# Altium integrated library Analog Devices Data Converters Digital-to-Analog Converters.IntLib: 2231 symbols (part 7 of 181)
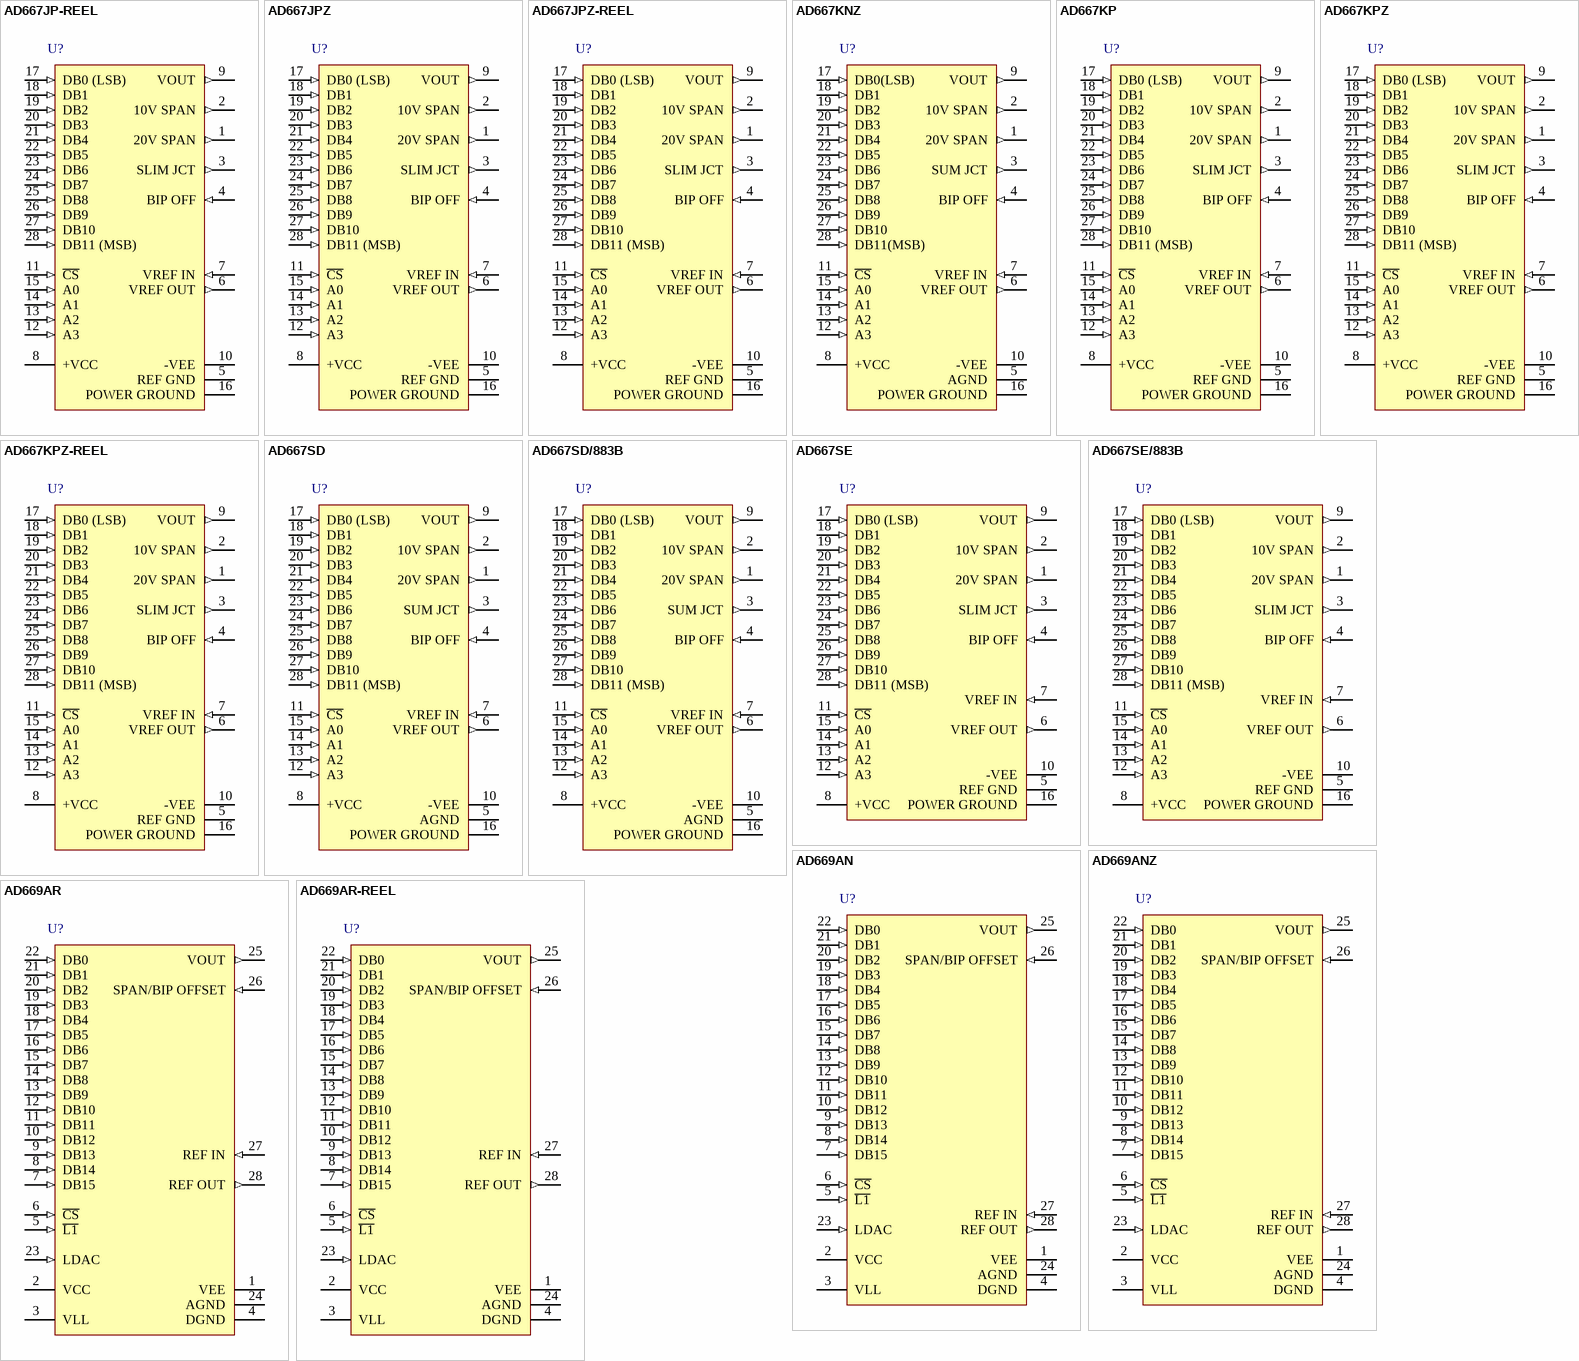
[diagram p120: symbols AD667JP-REEL to AD669AR-REEL]

## AD667KP
designator U?
Single 12-Bit Microprocessor-Compatible Digital-to-Analog Converter, 0 to +70 degC, P-28, Tube; Generic Part Number: AD667; Manufacturer: Analog Devices; PartNumber: AD667KP; # DAC Outputs: 1; Max V+: 16.5V; Op Pwr Diss: 555mW; Resolution (Bits): 12; Settling Time: 2µs; Single Supply: No; DatasheetVersion: Rev.A; PackageVersion: 042508-A; PackageReference: P-28; PackageDescription: 28-Lead Plastic Leaded Chip Carrier [PLCC]; Supplier 1: Digi-Key; Supplier Part Number 1: AD667KP-ND; Supplier 2: Mouser; Supplier Part Number 2: 584-AD667KP; Packing: Tube; RoHS: N; Mounting Technology: Surface Mount; Code_JEDEC: MO-047-AB; ComponentLink1Description: Manufacturer URL; ComponentLink1URL: http://www.analog.com/en/index.html; ComponentLink2Description: Datasheet; ComponentLink2URL: http://www.analog.com/static/imported-files/data_sheets/AD667.pdf; ComponentLink3Description: Package Specification; ComponentLink3URL: http://www.analog.com/static/imported-files/packages/PKG_PDF/PLCC(P)/P_28.pdf; ComponentLink4Description: Product URL; ComponentLink4URL: http://www.analog.com/en/digital-to-analog-converters/da-converters/ad667/products/product.html
footprint P-28_N (Leaded Chip Carrier, 28-Leads, Body 11.5x11.5mm, Pitch 1.27mm, IPC Medium Density)
footprint P-28_L (Leaded Chip Carrier, 28-Leads, Body 11.5x11.5mm, Pitch 1.27mm, IPC High Density)
footprint P-28_M (Leaded Chip Carrier, 28-Leads, Body 11.5x11.5mm, Pitch 1.27mm, IPC Low Density)
pins: 1 20V SPAN (out), 2 10V SPAN (out), 3 SLIM JCT (out), 4 BIP OFF (in), 5 REF GND (power), 6 VREF OUT (out), 7 VREF IN (in), 8 +VCC (power), 9 VOUT (out), 10 -VEE (power), 11 ~{CS} (in), 12 A3 (in), 13 A2 (in), 14 A1 (in), 15 A0 (in), 16 POWER GROUND (power), 17 DB0 (LSB) (in), 18 DB1 (in), 19 DB2 (in), 20 DB3 (in), 21 DB4 (in), 22 DB5 (in), 23 DB6 (in), 24 DB7 (in), 25 DB8 (in), 26 DB9 (in), 27 DB10 (in), 28 DB11 (MSB) (in)

## AD667KPZ
designator U?
Single 12-Bit Microprocessor-Compatible Digital-to-Analog Converter, 0 to +70 degC, P-28, Pb-Free, Tube; Generic Part Number: AD667; Manufacturer: Analog Devices; PartNumber: AD667KPZ; # DAC Outputs: 1; Max V+: 16.5V; Op Pwr Diss: 555mW; Resolution (Bits): 12; Settling Time: 2µs; Single Supply: No; DatasheetVersion: Rev.A; PackageVersion: 042508-A; PackageReference: P-28; PackageDescription: 28-Lead Plastic Leaded Chip Carrier [PLCC]; Supplier 1: Digi-Key; Supplier Part Number 1: AD667KPZ-ND; Supplier 2: Newark; Supplier Part Number 2: 52R8146; Supplier 3: Mouser; Supplier Part Number 3: 584-AD667KPZ; Packing: Tube; RoHS: Y; Mounting Technology: Surface Mount; Code_JEDEC: MO-047-AB; ComponentLink1Description: Manufacturer URL; ComponentLink1URL: http://www.analog.com/en/index.html; ComponentLink2Description: Datasheet; ComponentLink2URL: http://www.analog.com/static/imported-files/data_sheets/AD667.pdf; ComponentLink3Description: Package Specification; ComponentLink3URL: http://www.analog.com/static/imported-files/packages/PKG_PDF/PLCC(P)/P_28.pdf; ComponentLink4Description: Product URL; ComponentLink4URL: http://www.analog.com/en/digital-to-analog-converters/da-converters/ad667/products/product.html
footprint P-28_N (Leaded Chip Carrier, 28-Leads, Body 11.5x11.5mm, Pitch 1.27mm, IPC Medium Density)
footprint P-28_L (Leaded Chip Carrier, 28-Leads, Body 11.5x11.5mm, Pitch 1.27mm, IPC High Density)
footprint P-28_M (Leaded Chip Carrier, 28-Leads, Body 11.5x11.5mm, Pitch 1.27mm, IPC Low Density)
pins: 1 20V SPAN (out), 2 10V SPAN (out), 3 SLIM JCT (out), 4 BIP OFF (in), 5 REF GND (power), 6 VREF OUT (out), 7 VREF IN (in), 8 +VCC (power), 9 VOUT (out), 10 -VEE (power), 11 ~{CS} (in), 12 A3 (in), 13 A2 (in), 14 A1 (in), 15 A0 (in), 16 POWER GROUND (power), 17 DB0 (LSB) (in), 18 DB1 (in), 19 DB2 (in), 20 DB3 (in), 21 DB4 (in), 22 DB5 (in), 23 DB6 (in), 24 DB7 (in), 25 DB8 (in), 26 DB9 (in), 27 DB10 (in), 28 DB11 (MSB) (in)

## AD667KPZ-REEL
designator U?
Single 12-Bit Microprocessor-Compatible Digital-to-Analog Converter, 0 to +70 degC, P-28, Pb-Free, Reel; Generic Part Number: AD667; Manufacturer: Analog Devices; PartNumber: AD667KPZ-REEL; # DAC Outputs: 1; Max V+: 16.5V; Op Pwr Diss: 555mW; Resolution (Bits): 12; Settling Time: 2µs; Single Supply: No; DatasheetVersion: Rev.A; PackageVersion: 042508-A; PackageReference: P-28; PackageDescription: 28-Lead Plastic Leaded Chip Carrier [PLCC]; Supplier 1: Digi-Key; Supplier Part Number 1: AD667KPZ-REEL-ND; Supplier 2: Newark; Supplier Part Number 2: 52R8147; Supplier 3: Mouser; Supplier Part Number 3: 584-AD667KPZ-R; Packing: Reel; RoHS: Y; Mounting Technology: Surface Mount; Code_JEDEC: MO-047-AB; ComponentLink1Description: Manufacturer URL; ComponentLink1URL: http://www.analog.com/en/index.html; ComponentLink2Description: Datasheet; ComponentLink2URL: http://www.analog.com/static/imported-files/data_sheets/AD667.pdf; ComponentLink3Description: Package Specification; ComponentLink3URL: http://www.analog.com/static/imported-files/packages/PKG_PDF/PLCC(P)/P_28.pdf; ComponentLink4Description: Product URL; ComponentLink4URL: http://www.analog.com/en/digital-to-analog-converters/da-converters/ad667/products/product.html
footprint P-28_N (Leaded Chip Carrier, 28-Leads, Body 11.5x11.5mm, Pitch 1.27mm, IPC Medium Density)
footprint P-28_L (Leaded Chip Carrier, 28-Leads, Body 11.5x11.5mm, Pitch 1.27mm, IPC High Density)
footprint P-28_M (Leaded Chip Carrier, 28-Leads, Body 11.5x11.5mm, Pitch 1.27mm, IPC Low Density)
pins: 1 20V SPAN (out), 2 10V SPAN (out), 3 SLIM JCT (out), 4 BIP OFF (in), 5 REF GND (power), 6 VREF OUT (out), 7 VREF IN (in), 8 +VCC (power), 9 VOUT (out), 10 -VEE (power), 11 ~{CS} (in), 12 A3 (in), 13 A2 (in), 14 A1 (in), 15 A0 (in), 16 POWER GROUND (power), 17 DB0 (LSB) (in), 18 DB1 (in), 19 DB2 (in), 20 DB3 (in), 21 DB4 (in), 22 DB5 (in), 23 DB6 (in), 24 DB7 (in), 25 DB8 (in), 26 DB9 (in), 27 DB10 (in), 28 DB11 (MSB) (in)

## AD667SD
designator U?
Single 12-Bit Microprocessor-Compatible Digital-to-Analog Converter, -55 to +125 degC, D-28-2, Tube; Generic Part Number: AD667; Manufacturer: Analog Devices; PartNumber: AD667SD; # DAC Outputs: 1; Max V+: 16.5V; Op Pwr Diss: 555mW; Resolution (Bits): 12; Settling Time: 2µs; Single Supply: No; DatasheetVersion: Rev.A; PackageVersion: Oct-2004; PackageReference: D-28-2; PackageDescription: 28-Lead Side-Brazed Ceramic Dual In-Line Package [SBDIP]; Supplier 1: Digi-Key; Supplier Part Number 1: AD667SD-ND; Supplier 2: Newark; Supplier Part Number 2: 66F5809; Supplier 3: Mouser; Supplier Part Number 3: 584-AD667SD; Packing: Tube; RoHS: N; Mounting Technology: Through Hole; ComponentLink1Description: Manufacturer URL; ComponentLink1URL: http://www.analog.com/en/index.html; ComponentLink2Description: Datasheet; ComponentLink2URL: http://www.analog.com/static/imported-files/data_sheets/AD667.pdf; ComponentLink3Description: Package Specification; ComponentLink3URL: http://www.analog.com/static/imported-files/packages/28824602D_28_2.pdf; ComponentLink4Description: Product URL; ComponentLink4URL: http://www.analog.com/en/digital-to-analog-converters/da-converters/ad667/products/product.html
footprint D-28-2 (DIP, 28-Leads, Row Spacing 15.24mm, Pitch 2.54mm, Body 37.2x14.1mm)
pins: 1 20V SPAN (out), 2 10V SPAN (out), 3 SUM JCT (out), 4 BIP OFF (in), 5 AGND (power), 6 VREF OUT (out), 7 VREF IN (in), 8 +VCC (power), 9 VOUT (out), 10 -VEE (power), 11 ~{CS} (in), 12 A3 (in), 13 A2 (in), 14 A1 (in), 15 A0 (in), 16 POWER GROUND (power), 17 DB0 (LSB) (in), 18 DB1 (in), 19 DB2 (in), 20 DB3 (in), 21 DB4 (in), 22 DB5 (in), 23 DB6 (in), 24 DB7 (in), 25 DB8 (in), 26 DB9 (in), 27 DB10 (in), 28 DB11 (MSB) (in)

## AD667SD/883B
designator U?
Single 12-Bit Microprocessor-Compatible Digital-to-Analog Converter, -55 to +125 degC, D-28-2, Tube; Generic Part Number: AD667; Manufacturer: Analog Devices; PartNumber: AD667SD/883B; # DAC Outputs: 1; Max V+: 16.5V; Op Pwr Diss: 555mW; Resolution (Bits): 12; Settling Time: 2µs; Single Supply: No; DatasheetVersion: Rev.A; PackageVersion: Oct-2004; PackageReference: D-28-2; PackageDescription: 28-Lead Side-Brazed Ceramic Dual In-Line Package [SBDIP]; Supplier 1: Mouser; Supplier Part Number 1: 584-AD667SD883B; Packing: Tube; RoHS: N; Mounting Technology: Through Hole; ComponentLink1Description: Manufacturer URL; ComponentLink1URL: http://www.analog.com/en/index.html; ComponentLink2Description: Datasheet; ComponentLink2URL: http://www.analog.com/static/imported-files/data_sheets/AD667.pdf; ComponentLink3Description: Package Specification; ComponentLink3URL: http://www.analog.com/static/imported-files/packages/28824602D_28_2.pdf; ComponentLink4Description: Product URL; ComponentLink4URL: http://www.analog.com/en/digital-to-analog-converters/da-converters/ad667/products/product.html
footprint D-28-2 (DIP, 28-Leads, Row Spacing 15.24mm, Pitch 2.54mm, Body 37.2x14.1mm)
pins: 1 20V SPAN (out), 2 10V SPAN (out), 3 SUM JCT (out), 4 BIP OFF (in), 5 AGND (power), 6 VREF OUT (out), 7 VREF IN (in), 8 +VCC (power), 9 VOUT (out), 10 -VEE (power), 11 ~{CS} (in), 12 A3 (in), 13 A2 (in), 14 A1 (in), 15 A0 (in), 16 POWER GROUND (power), 17 DB0 (LSB) (in), 18 DB1 (in), 19 DB2 (in), 20 DB3 (in), 21 DB4 (in), 22 DB5 (in), 23 DB6 (in), 24 DB7 (in), 25 DB8 (in), 26 DB9 (in), 27 DB10 (in), 28 DB11 (MSB) (in)

## AD667SE
designator U?
Single 12-Bit Microprocessor-Compatible Digital-to-Analog Converter, -55 to +125 degC, E-28-1, Pb-Free, Tube; Generic Part Number: AD667; Manufacturer: Analog Devices; PartNumber: AD667SE; # DAC Outputs: 1; Max V+: 16.5V; Op Pwr Diss: 555mW; Resolution (Bits): 12; Settling Time: 2µs; Single Supply: No; DatasheetVersion: Rev.A; PackageVersion: 022106-A; PackageReference: E-28-1; PackageDescription: 28-Terminal Ceramic Leadless Chip Carrier [LCC]; Supplier 1: Digi-Key; Supplier Part Number 1: AD667SE-ND; Supplier 2: Newark; Supplier Part Number 2: 16F3497; Supplier 3: Mouser; Supplier Part Number 3: 584-AD667SE; Packing: Tube; RoHS: Y; Mounting Technology: Surface Mount; ComponentLink1Description: Manufacturer URL; ComponentLink1URL: http://www.analog.com/en/index.html; ComponentLink2Description: Datasheet; ComponentLink2URL: http://www.analog.com/static/imported-files/data_sheets/AD667.pdf; ComponentLink3Description: Package Specification; ComponentLink3URL: http://www.analog.com/static/imported-files/packages/PKG_PDF/LCC(E)/E_28_1.pdf; ComponentLink4Description: Product URL; ComponentLink4URL: http://www.analog.com/en/digital-to-analog-converters/da-converters/ad667/products/product.html
footprint E-28-1_N (Leadless Chip Carrier, 28-Leads, Body 11.4x11.4mm, Pitch 1.27mm, IPC Medium Density)
footprint E-28-1_L (Leadless Chip Carrier, 28-Leads, Body 11.4x11.4mm, Pitch 1.27mm, IPC High Density)
footprint E-28-1_M (Leadless Chip Carrier, 28-Leads, Body 11.4x11.4mm, Pitch 1.27mm, IPC Low Density)
pins: 1 20V SPAN (out), 2 10V SPAN (out), 3 SLIM JCT (out), 4 BIP OFF (in), 5 REF GND (power), 6 VREF OUT (out), 7 VREF IN (in), 8 +VCC (power), 9 VOUT (out), 10 -VEE (power), 11 ~{CS} (in), 12 A3 (in), 13 A2 (in), 14 A1 (in), 15 A0 (in), 16 POWER GROUND (power), 17 DB0 (LSB) (in), 18 DB1 (in), 19 DB2 (in), 20 DB3 (in), 21 DB4 (in), 22 DB5 (in), 23 DB6 (in), 24 DB7 (in), 25 DB8 (in), 26 DB9 (in), 27 DB10 (in), 28 DB11 (MSB) (in)

## AD667SE/883B
designator U?
Single 12-Bit Microprocessor-Compatible Digital-to-Analog Converter, -55 to +125 degC, E-28-1, Tube; Generic Part Number: AD667; Manufacturer: Analog Devices; PartNumber: AD667SE/883B; # DAC Outputs: 1; Max V+: 16.5V; Op Pwr Diss: 555mW; Resolution (Bits): 12; Settling Time: 2µs; Single Supply: No; DatasheetVersion: Rev.A; PackageVersion: 022106-A; PackageReference: E-28-1; PackageDescription: 28-Terminal Ceramic Leadless Chip Carrier [LCC]; Supplier 1: Mouser; Supplier Part Number 1: 584-AD667SE883B; Packing: Tube; RoHS: N; Mounting Technology: Surface Mount; ComponentLink1Description: Manufacturer URL; ComponentLink1URL: http://www.analog.com/en/index.html; ComponentLink2Description: Datasheet; ComponentLink2URL: http://www.analog.com/static/imported-files/data_sheets/AD667.pdf; ComponentLink3Description: Package Specification; ComponentLink3URL: http://www.analog.com/static/imported-files/packages/PKG_PDF/LCC(E)/E_28_1.pdf; ComponentLink4Description: Product URL; ComponentLink4URL: http://www.analog.com/en/digital-to-analog-converters/da-converters/ad667/products/product.html
footprint E-28-1_N (Leadless Chip Carrier, 28-Leads, Body 11.4x11.4mm, Pitch 1.27mm, IPC Medium Density)
footprint E-28-1_L (Leadless Chip Carrier, 28-Leads, Body 11.4x11.4mm, Pitch 1.27mm, IPC High Density)
footprint E-28-1_M (Leadless Chip Carrier, 28-Leads, Body 11.4x11.4mm, Pitch 1.27mm, IPC Low Density)
pins: 1 20V SPAN (out), 2 10V SPAN (out), 3 SLIM JCT (out), 4 BIP OFF (in), 5 REF GND (power), 6 VREF OUT (out), 7 VREF IN (in), 8 +VCC (power), 9 VOUT (out), 10 -VEE (power), 11 ~{CS} (in), 12 A3 (in), 13 A2 (in), 14 A1 (in), 15 A0 (in), 16 POWER GROUND (power), 17 DB0 (LSB) (in), 18 DB1 (in), 19 DB2 (in), 20 DB3 (in), 21 DB4 (in), 22 DB5 (in), 23 DB6 (in), 24 DB7 (in), 25 DB8 (in), 26 DB9 (in), 27 DB10 (in), 28 DB11 (MSB) (in)

## AD669AN
designator U?
Single 16-Bit Monolithic DACPORT, -40 to +85 degC, N-28-2, Tube; Generic Part Number: AD669; Manufacturer: Analog Devices; PartNumber: AD669AN; # DAC Outputs: 1; Max V+: 16.5V; Op Pwr Diss: 625mW; Resolution (Bits): 16; Settling Time: 6µs; Single Supply: No; DatasheetVersion: Rev.A; PackageVersion: 071006-A; PackageReference: N-28-2; PackageDescription: 28-Lead Plastic Dual In-Line Package [PDIP]; Supplier 1: Digi-Key; Supplier Part Number 1: AD669AN-ND; Supplier 2: Mouser; Supplier Part Number 2: 584-AD669AN; Packing: Tube; RoHS: N; Mounting Technology: Through Hole; Code_JEDEC: MS-011; ComponentLink1Description: Manufacturer URL; ComponentLink1URL: http://www.analog.com/en/index.html; ComponentLink2Description: Datasheet; ComponentLink2URL: http://www.analog.com/static/imported-files/data_sheets/AD669.pdf; ComponentLink3Description: Package Specification; ComponentLink3URL: http://www.analog.com/static/imported-files/packages/50849324123784N_28_2.pdf; ComponentLink4Description: Product URL; ComponentLink4URL: http://www.analog.com/en/digital-to-analog-converters/da-converters/ad669/products/product.html
footprint N-28-2 (DIP, 28-Leads, Row Spacing 15.55mm, Pitch 2.54mm, Body 37.4x13.5mm)
pins: 1 VEE (power), 2 VCC (power), 3 VLL (power), 4 DGND (power), 5 ~{L1} (in), 6 ~{CS} (in), 7 DB15 (in), 8 DB14 (in), 9 DB13 (in), 10 DB12 (in), 11 DB11 (in), 12 DB10 (in), 13 DB9 (in), 14 DB8 (in), 15 DB7 (in), 16 DB6 (in), 17 DB5 (in), 18 DB4 (in), 19 DB3 (in), 20 DB2 (in), 21 DB1 (in), 22 DB0 (in), 23 LDAC (in), 24 AGND (power), 25 VOUT (out), 26 SPAN/BIP OFFSET (in), 27 REF IN (in), 28 REF OUT (out)

## AD669ANZ
designator U?
Single 16-Bit Monolithic DACPORT, -40 to +85 degC, N-28-2, Pb-Free, Tube; Generic Part Number: AD669; Manufacturer: Analog Devices; PartNumber: AD669ANZ; # DAC Outputs: 1; Max V+: 16.5V; Op Pwr Diss: 625mW; Resolution (Bits): 16; Settling Time: 6µs; Single Supply: No; DatasheetVersion: Rev.A; PackageVersion: 071006-A; PackageReference: N-28-2; PackageDescription: 28-Lead Plastic Dual In-Line Package [PDIP]; Supplier 1: Digi-Key; Supplier Part Number 1: AD669ANZ-ND; Supplier 2: Farnell; Supplier Part Number 2: 9605541; Supplier 3: Newark; Supplier Part Number 3: 31M4209; Supplier 4: Newark; Supplier Part Number 4: 59K4499; Supplier 5: Mouser; Supplier Part Number 5: 584-AD669ANZ; Packing: Tube; RoHS: Y; Mounting Technology: Through Hole; Code_JEDEC: MS-011; ComponentLink1Description: Manufacturer URL; ComponentLink1URL: http://www.analog.com/en/index.html; ComponentLink2Description: Datasheet; ComponentLink2URL: http://www.analog.com/static/imported-files/data_sheets/AD669.pdf; ComponentLink3Description: Package Specification; ComponentLink3URL: http://www.analog.com/static/imported-files/packages/50849324123784N_28_2.pdf; ComponentLink4Description: Product URL; ComponentLink4URL: http://www.analog.com/en/digital-to-analog-converters/da-converters/ad669/products/product.html
footprint N-28-2 (DIP, 28-Leads, Row Spacing 15.55mm, Pitch 2.54mm, Body 37.4x13.5mm)
pins: 1 VEE (power), 2 VCC (power), 3 VLL (power), 4 DGND (power), 5 ~{L1} (in), 6 ~{CS} (in), 7 DB15 (in), 8 DB14 (in), 9 DB13 (in), 10 DB12 (in), 11 DB11 (in), 12 DB10 (in), 13 DB9 (in), 14 DB8 (in), 15 DB7 (in), 16 DB6 (in), 17 DB5 (in), 18 DB4 (in), 19 DB3 (in), 20 DB2 (in), 21 DB1 (in), 22 DB0 (in), 23 LDAC (in), 24 AGND (power), 25 VOUT (out), 26 SPAN/BIP OFFSET (in), 27 REF IN (in), 28 REF OUT (out)

## AD669AR
designator U?
Single 16-Bit Monolithic DACPORT, -40 to +85 degC, RW-28, Tube; Generic Part Number: AD669; Manufacturer: Analog Devices; PartNumber: AD669AR; # DAC Outputs: 1; Max V+: 16.5V; Op Pwr Diss: 625mW; Resolution (Bits): 16; Settling Time: 6µs; Single Supply: No; DatasheetVersion: Rev.A; PackageVersion: 060706-A; PackageReference: RW-28; PackageDescription: 28-Lead Standard Small Outline Package [SOIC_W]; Supplier 1: Digi-Key; Supplier Part Number 1: AD669AR-ND; Supplier 2: Mouser; Supplier Part Number 2: 584-AD669AR; Packing: Tube; RoHS: N; Mounting Technology: Surface Mount; Code_JEDEC: MS-013-AE; ComponentLink1Description: Manufacturer URL; ComponentLink1URL: http://www.analog.com/en/index.html; ComponentLink2Description: Datasheet; ComponentLink2URL: http://www.analog.com/static/imported-files/data_sheets/AD669.pdf; ComponentLink3Description: Product URL; ComponentLink3URL: http://www.analog.com/en/digital-to-analog-converters/da-converters/ad669/products/product.html
footprint RW-28_N (SOIC, 28-Leads, Body 17.9x7.5mm, Pitch 1.27mm, IPC Medium Density)
footprint RW-28_L (SOIC, 28-Leads, Body 17.9x7.5mm, Pitch 1.27mm, IPC High Density)
footprint RW-28_M (SOIC, 28-Leads, Body 17.9x7.5mm, Pitch 1.27mm, IPC Low Density)
pins: 1 VEE (power), 2 VCC (power), 3 VLL (power), 4 DGND (power), 5 ~{L1} (in), 6 ~{CS} (in), 7 DB15 (in), 8 DB14 (in), 9 DB13 (in), 10 DB12 (in), 11 DB11 (in), 12 DB10 (in), 13 DB9 (in), 14 DB8 (in), 15 DB7 (in), 16 DB6 (in), 17 DB5 (in), 18 DB4 (in), 19 DB3 (in), 20 DB2 (in), 21 DB1 (in), 22 DB0 (in), 23 LDAC (in), 24 AGND (power), 25 VOUT (out), 26 SPAN/BIP OFFSET (in), 27 REF IN (in), 28 REF OUT (out)

## AD669AR-REEL
designator U?
Single 16-Bit Monolithic DACPORT, -40 to +85 degC, RW-28, Reel; Generic Part Number: AD669; Manufacturer: Analog Devices; PartNumber: AD669AR-REEL; # DAC Outputs: 1; Max V+: 16.5V; Op Pwr Diss: 625mW; Resolution (Bits): 16; Settling Time: 6µs; Single Supply: No; DatasheetVersion: Rev.A; PackageVersion: 060706-A; PackageReference: RW-28; PackageDescription: 28-Lead Standard Small Outline Package [SOIC_W]; Supplier 1: Digi-Key; Supplier Part Number 1: AD669AR-REEL-ND; Supplier 2: Mouser; Supplier Part Number 2: 584-AD669AR-R; Packing: Reel; RoHS: N; Mounting Technology: Surface Mount; Code_JEDEC: MS-013-AE; ComponentLink1Description: Manufacturer URL; ComponentLink1URL: http://www.analog.com/en/index.html; ComponentLink2Description: Datasheet; ComponentLink2URL: http://www.analog.com/static/imported-files/data_sheets/AD669.pdf; ComponentLink3Description: Product URL; ComponentLink3URL: http://www.analog.com/en/digital-to-analog-converters/da-converters/ad669/products/product.html
footprint RW-28_N (SOIC, 28-Leads, Body 17.9x7.5mm, Pitch 1.27mm, IPC Medium Density)
footprint RW-28_L (SOIC, 28-Leads, Body 17.9x7.5mm, Pitch 1.27mm, IPC High Density)
footprint RW-28_M (SOIC, 28-Leads, Body 17.9x7.5mm, Pitch 1.27mm, IPC Low Density)
pins: 1 VEE (power), 2 VCC (power), 3 VLL (power), 4 DGND (power), 5 ~{L1} (in), 6 ~{CS} (in), 7 DB15 (in), 8 DB14 (in), 9 DB13 (in), 10 DB12 (in), 11 DB11 (in), 12 DB10 (in), 13 DB9 (in), 14 DB8 (in), 15 DB7 (in), 16 DB6 (in), 17 DB5 (in), 18 DB4 (in), 19 DB3 (in), 20 DB2 (in), 21 DB1 (in), 22 DB0 (in), 23 LDAC (in), 24 AGND (power), 25 VOUT (out), 26 SPAN/BIP OFFSET (in), 27 REF IN (in), 28 REF OUT (out)

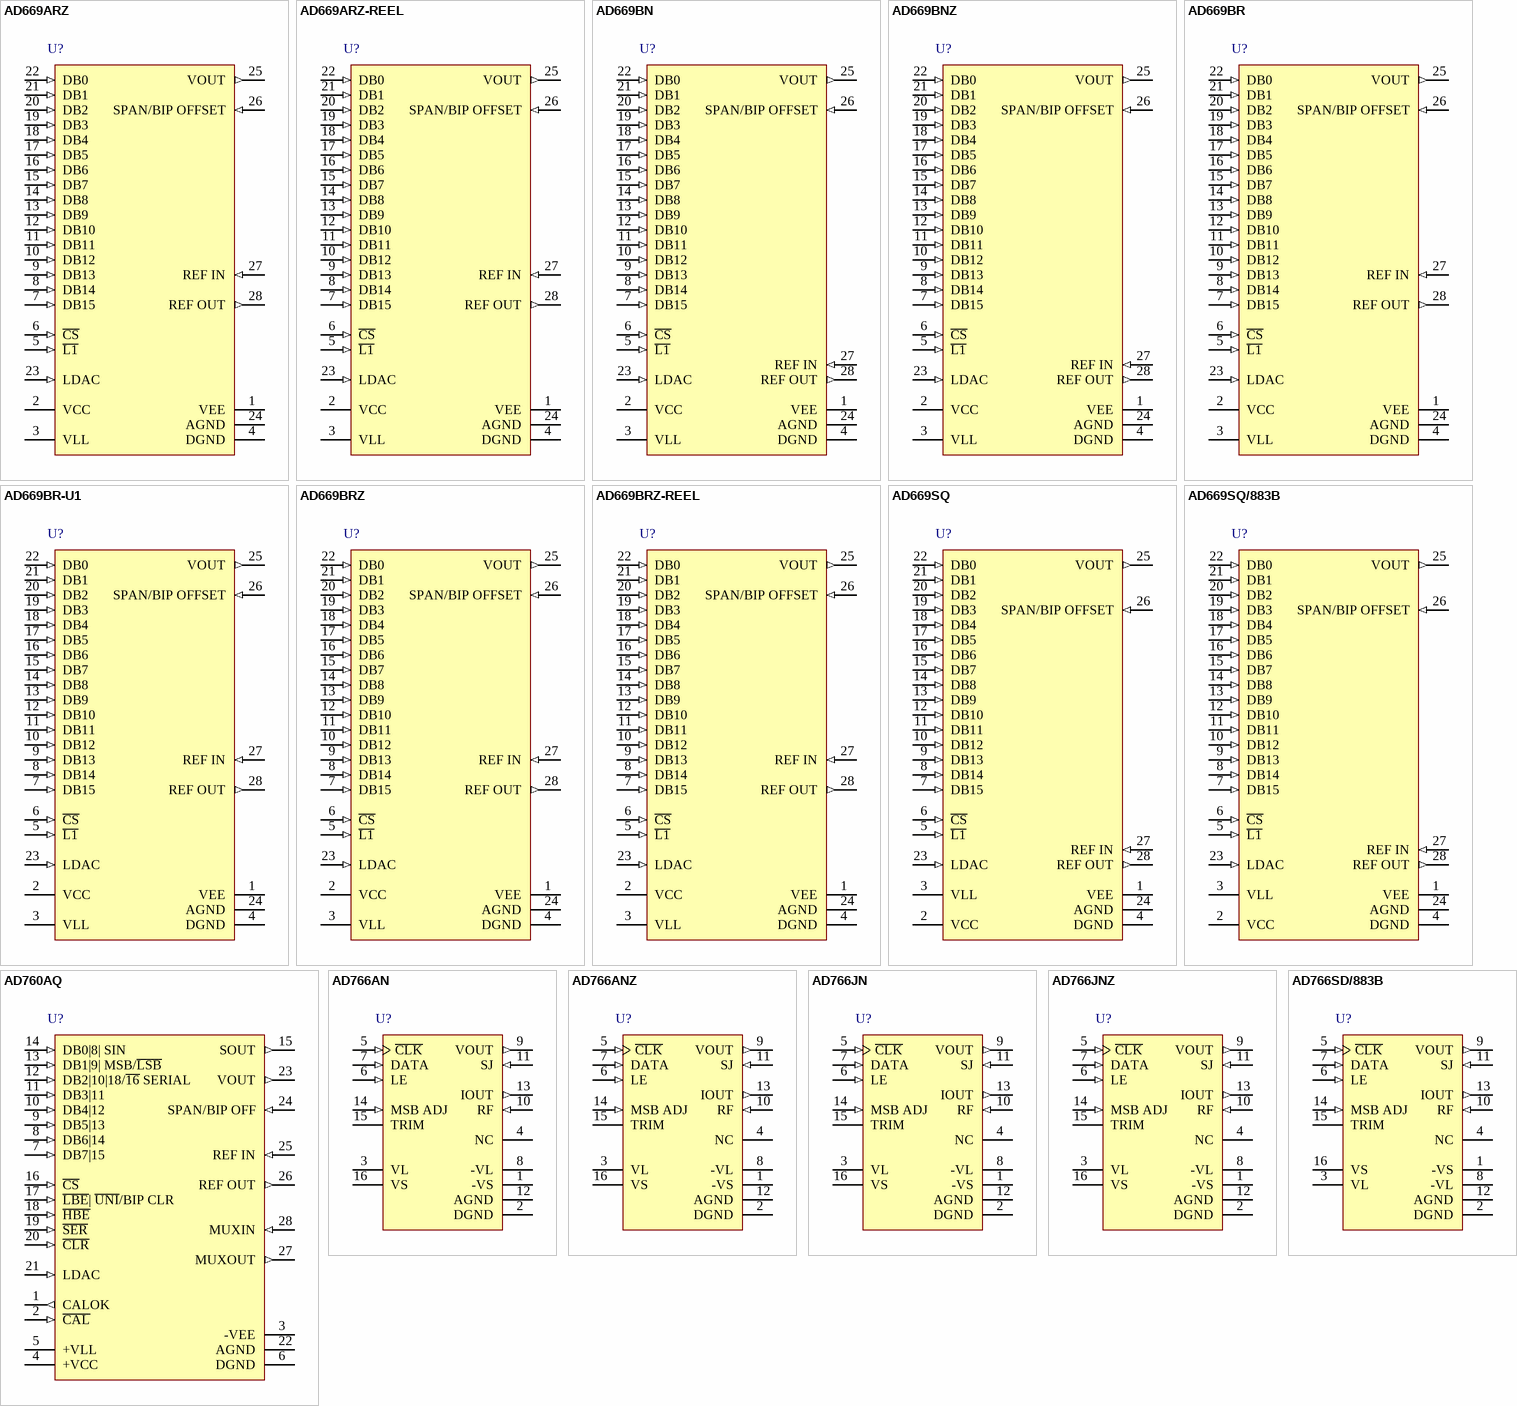
[diagram p7: symbols AD669ARZ to AD766SD/883B]

## AD669ARZ
designator U?
Single 16-Bit Monolithic DACPORT, -40 to +85 degC, RW-28, Pb-Free, Tube; Generic Part Number: AD669; Manufacturer: Analog Devices; PartNumber: AD669ARZ; # DAC Outputs: 1; Max V+: 16.5V; Op Pwr Diss: 625mW; Resolution (Bits): 16; Settling Time: 6µs; Single Supply: No; DatasheetVersion: Rev.A; PackageVersion: 060706-A; PackageReference: RW-28; PackageDescription: 28-Lead Standard Small Outline Package [SOIC_W]; Supplier 1: Digi-Key; Supplier Part Number 1: AD669ARZ-ND; Supplier 2: Farnell; Supplier Part Number 2: 2067763; Supplier 3: Mouser; Supplier Part Number 3: 584-AD669ARZ; Packing: Tube; RoHS: Y; Mounting Technology: Surface Mount; Code_JEDEC: MS-013-AE; ComponentLink1Description: Manufacturer URL; ComponentLink1URL: http://www.analog.com/en/index.html; ComponentLink2Description: Datasheet; ComponentLink2URL: http://www.analog.com/static/imported-files/data_sheets/AD669.pdf; ComponentLink3Description: Product URL; ComponentLink3URL: http://www.analog.com/en/digital-to-analog-converters/da-converters/ad669/products/product.html
footprint RW-28_N (SOIC, 28-Leads, Body 17.9x7.5mm, Pitch 1.27mm, IPC Medium Density)
footprint RW-28_L (SOIC, 28-Leads, Body 17.9x7.5mm, Pitch 1.27mm, IPC High Density)
footprint RW-28_M (SOIC, 28-Leads, Body 17.9x7.5mm, Pitch 1.27mm, IPC Low Density)
pins: 1 VEE (power), 2 VCC (power), 3 VLL (power), 4 DGND (power), 5 ~{L1} (in), 6 ~{CS} (in), 7 DB15 (in), 8 DB14 (in), 9 DB13 (in), 10 DB12 (in), 11 DB11 (in), 12 DB10 (in), 13 DB9 (in), 14 DB8 (in), 15 DB7 (in), 16 DB6 (in), 17 DB5 (in), 18 DB4 (in), 19 DB3 (in), 20 DB2 (in), 21 DB1 (in), 22 DB0 (in), 23 LDAC (in), 24 AGND (power), 25 VOUT (out), 26 SPAN/BIP OFFSET (in), 27 REF IN (in), 28 REF OUT (out)

## AD669ARZ-REEL
designator U?
Single 16-Bit Monolithic DACPORT, -40 to +85 degC, RW-28, Pb-Free, Reel; Generic Part Number: AD669; Manufacturer: Analog Devices; PartNumber: AD669ARZ-REEL; # DAC Outputs: 1; Max V+: 16.5V; Op Pwr Diss: 625mW; Resolution (Bits): 16; Settling Time: 6µs; Single Supply: No; DatasheetVersion: Rev.A; PackageVersion: 060706-A; PackageReference: RW-28; PackageDescription: 28-Lead Standard Small Outline Package [SOIC_W]; Supplier 1: Digi-Key; Supplier Part Number 1: AD669ARZ-REELTR-ND; Supplier 2: Digi-Key; Supplier Part Number 2: AD669ARZ-REELCT-ND; Supplier 3: Digi-Key; Supplier Part Number 3: AD669ARZ-REELDKR-ND; Supplier 4: Mouser; Supplier Part Number 4: 584-AD669ARZ-R; Packing: Reel; RoHS: Y; Mounting Technology: Surface Mount; Code_JEDEC: MS-013-AE; ComponentLink1Description: Manufacturer URL; ComponentLink1URL: http://www.analog.com/en/index.html; ComponentLink2Description: Datasheet; ComponentLink2URL: http://www.analog.com/static/imported-files/data_sheets/AD669.pdf; ComponentLink3Description: Product URL; ComponentLink3URL: http://www.analog.com/en/digital-to-analog-converters/da-converters/ad669/products/product.html
footprint RW-28_N (SOIC, 28-Leads, Body 17.9x7.5mm, Pitch 1.27mm, IPC Medium Density)
footprint RW-28_L (SOIC, 28-Leads, Body 17.9x7.5mm, Pitch 1.27mm, IPC High Density)
footprint RW-28_M (SOIC, 28-Leads, Body 17.9x7.5mm, Pitch 1.27mm, IPC Low Density)
pins: 1 VEE (power), 2 VCC (power), 3 VLL (power), 4 DGND (power), 5 ~{L1} (in), 6 ~{CS} (in), 7 DB15 (in), 8 DB14 (in), 9 DB13 (in), 10 DB12 (in), 11 DB11 (in), 12 DB10 (in), 13 DB9 (in), 14 DB8 (in), 15 DB7 (in), 16 DB6 (in), 17 DB5 (in), 18 DB4 (in), 19 DB3 (in), 20 DB2 (in), 21 DB1 (in), 22 DB0 (in), 23 LDAC (in), 24 AGND (power), 25 VOUT (out), 26 SPAN/BIP OFFSET (in), 27 REF IN (in), 28 REF OUT (out)

## AD669BN
designator U?
Single 16-Bit Monolithic DACPORT, -40 to +85 degC, N-28-2, Tube; Generic Part Number: AD669; Manufacturer: Analog Devices; PartNumber: AD669BN; # DAC Outputs: 1; Max V+: 16.5V; Op Pwr Diss: 625mW; Resolution (Bits): 16; Settling Time: 6µs; Single Supply: No; DatasheetVersion: Rev.A; PackageVersion: 071006-A; PackageReference: N-28-2; PackageDescription: 28-Lead Plastic Dual In-Line Package [PDIP]; Supplier 1: Digi-Key; Supplier Part Number 1: AD669BN-ND; Supplier 2: Mouser; Supplier Part Number 2: 584-AD669BN; Packing: Tube; RoHS: N; Mounting Technology: Through Hole; Code_JEDEC: MS-011; ComponentLink1Description: Manufacturer URL; ComponentLink1URL: http://www.analog.com/en/index.html; ComponentLink2Description: Datasheet; ComponentLink2URL: http://www.analog.com/static/imported-files/data_sheets/AD669.pdf; ComponentLink3Description: Package Specification; ComponentLink3URL: http://www.analog.com/static/imported-files/packages/50849324123784N_28_2.pdf; ComponentLink4Description: Product URL; ComponentLink4URL: http://www.analog.com/en/digital-to-analog-converters/da-converters/ad669/products/product.html
footprint N-28-2 (DIP, 28-Leads, Row Spacing 15.55mm, Pitch 2.54mm, Body 37.4x13.5mm)
pins: 1 VEE (power), 2 VCC (power), 3 VLL (power), 4 DGND (power), 5 ~{L1} (in), 6 ~{CS} (in), 7 DB15 (in), 8 DB14 (in), 9 DB13 (in), 10 DB12 (in), 11 DB11 (in), 12 DB10 (in), 13 DB9 (in), 14 DB8 (in), 15 DB7 (in), 16 DB6 (in), 17 DB5 (in), 18 DB4 (in), 19 DB3 (in), 20 DB2 (in), 21 DB1 (in), 22 DB0 (in), 23 LDAC (in), 24 AGND (power), 25 VOUT (out), 26 SPAN/BIP OFFSET (in), 27 REF IN (in), 28 REF OUT (out)

## AD669BNZ
designator U?
Single 16-Bit Monolithic DACPORT, -40 to +85 degC, N-28-2, Pb-Free, Tube; Generic Part Number: AD669; Manufacturer: Analog Devices; PartNumber: AD669BNZ; # DAC Outputs: 1; Max V+: 16.5V; Op Pwr Diss: 625mW; Resolution (Bits): 16; Settling Time: 6µs; Single Supply: No; DatasheetVersion: Rev.A; PackageVersion: 071006-A; PackageReference: N-28-2; PackageDescription: 28-Lead Plastic Dual In-Line Package [PDIP]; Supplier 1: Digi-Key; Supplier Part Number 1: AD669BNZ-ND; Supplier 2: Farnell; Supplier Part Number 2: 9603557; Supplier 3: Newark; Supplier Part Number 3: 59K4501; Supplier 4: Mouser; Supplier Part Number 4: 584-AD669BNZ; Packing: Tube; RoHS: Y; Mounting Technology: Through Hole; Code_JEDEC: MS-011; ComponentLink1Description: Manufacturer URL; ComponentLink1URL: http://www.analog.com/en/index.html; ComponentLink2Description: Datasheet; ComponentLink2URL: http://www.analog.com/static/imported-files/data_sheets/AD669.pdf; ComponentLink3Description: Package Specification; ComponentLink3URL: http://www.analog.com/static/imported-files/packages/50849324123784N_28_2.pdf; ComponentLink4Description: Product URL; ComponentLink4URL: http://www.analog.com/en/digital-to-analog-converters/da-converters/ad669/products/product.html
footprint N-28-2 (DIP, 28-Leads, Row Spacing 15.55mm, Pitch 2.54mm, Body 37.4x13.5mm)
pins: 1 VEE (power), 2 VCC (power), 3 VLL (power), 4 DGND (power), 5 ~{L1} (in), 6 ~{CS} (in), 7 DB15 (in), 8 DB14 (in), 9 DB13 (in), 10 DB12 (in), 11 DB11 (in), 12 DB10 (in), 13 DB9 (in), 14 DB8 (in), 15 DB7 (in), 16 DB6 (in), 17 DB5 (in), 18 DB4 (in), 19 DB3 (in), 20 DB2 (in), 21 DB1 (in), 22 DB0 (in), 23 LDAC (in), 24 AGND (power), 25 VOUT (out), 26 SPAN/BIP OFFSET (in), 27 REF IN (in), 28 REF OUT (out)

## AD669BR
designator U?
Single 16-Bit Monolithic DACPORT, -40 to +85 degC, RW-28, Tube; Generic Part Number: AD669; Manufacturer: Analog Devices; PartNumber: AD669BR; # DAC Outputs: 1; Max V+: 16.5V; Op Pwr Diss: 625mW; Resolution (Bits): 16; Settling Time: 6µs; Single Supply: No; DatasheetVersion: Rev.A; PackageVersion: 060706-A; PackageReference: RW-28; PackageDescription: 28-Lead Standard Small Outline Package [SOIC_W]; Supplier 1: Digi-Key; Supplier Part Number 1: AD669BR-ND; Supplier 2: Newark; Supplier Part Number 2: 28M8981; Supplier 3: Mouser; Supplier Part Number 3: 584-AD669BR; Packing: Tube; RoHS: N; Mounting Technology: Surface Mount; Code_JEDEC: MS-013-AE; ComponentLink1Description: Manufacturer URL; ComponentLink1URL: http://www.analog.com/en/index.html; ComponentLink2Description: Datasheet; ComponentLink2URL: http://www.analog.com/static/imported-files/data_sheets/AD669.pdf; ComponentLink3Description: Product URL; ComponentLink3URL: http://www.analog.com/en/digital-to-analog-converters/da-converters/ad669/products/product.html
footprint RW-28_N (SOIC, 28-Leads, Body 17.9x7.5mm, Pitch 1.27mm, IPC Medium Density)
footprint RW-28_L (SOIC, 28-Leads, Body 17.9x7.5mm, Pitch 1.27mm, IPC High Density)
footprint RW-28_M (SOIC, 28-Leads, Body 17.9x7.5mm, Pitch 1.27mm, IPC Low Density)
pins: 1 VEE (power), 2 VCC (power), 3 VLL (power), 4 DGND (power), 5 ~{L1} (in), 6 ~{CS} (in), 7 DB15 (in), 8 DB14 (in), 9 DB13 (in), 10 DB12 (in), 11 DB11 (in), 12 DB10 (in), 13 DB9 (in), 14 DB8 (in), 15 DB7 (in), 16 DB6 (in), 17 DB5 (in), 18 DB4 (in), 19 DB3 (in), 20 DB2 (in), 21 DB1 (in), 22 DB0 (in), 23 LDAC (in), 24 AGND (power), 25 VOUT (out), 26 SPAN/BIP OFFSET (in), 27 REF IN (in), 28 REF OUT (out)

## AD669BR-U1
designator U?
Single 16-Bit Monolithic DACPORT, -40 to +85 degC, RW-28, Tube; Generic Part Number: AD669; Manufacturer: Analog Devices; PartNumber: AD669BR-U1; # DAC Outputs: 1; Max V+: 16.5V; Op Pwr Diss: 625mW; Resolution (Bits): 16; Settling Time: 6µs; Single Supply: No; DatasheetVersion: Rev.A; PackageVersion: 060706-A; PackageReference: RW-28; PackageDescription: 28-Lead Standard Small Outline Package [SOIC_W]; Supplier 1: Mouser; Supplier Part Number 1: N/A; Packing: Tube; RoHS: N; Mounting Technology: Surface Mount; Code_JEDEC: MS-013-AE; ComponentLink1Description: Manufacturer URL; ComponentLink1URL: http://www.analog.com/en/index.html; ComponentLink2Description: Datasheet; ComponentLink2URL: http://www.analog.com/static/imported-files/data_sheets/AD669.pdf; ComponentLink3Description: Product URL; ComponentLink3URL: http://www.analog.com/en/digital-to-analog-converters/da-converters/ad669/products/product.html
footprint RW-28_N (SOIC, 28-Leads, Body 17.9x7.5mm, Pitch 1.27mm, IPC Medium Density)
footprint RW-28_L (SOIC, 28-Leads, Body 17.9x7.5mm, Pitch 1.27mm, IPC High Density)
footprint RW-28_M (SOIC, 28-Leads, Body 17.9x7.5mm, Pitch 1.27mm, IPC Low Density)
pins: 1 VEE (power), 2 VCC (power), 3 VLL (power), 4 DGND (power), 5 ~{L1} (in), 6 ~{CS} (in), 7 DB15 (in), 8 DB14 (in), 9 DB13 (in), 10 DB12 (in), 11 DB11 (in), 12 DB10 (in), 13 DB9 (in), 14 DB8 (in), 15 DB7 (in), 16 DB6 (in), 17 DB5 (in), 18 DB4 (in), 19 DB3 (in), 20 DB2 (in), 21 DB1 (in), 22 DB0 (in), 23 LDAC (in), 24 AGND (power), 25 VOUT (out), 26 SPAN/BIP OFFSET (in), 27 REF IN (in), 28 REF OUT (out)

## AD669BRZ
designator U?
Single 16-Bit Monolithic DACPORT, -40 to +85 degC, RW-28, Pb-Free, Tube; Generic Part Number: AD669; Manufacturer: Analog Devices; PartNumber: AD669BRZ; # DAC Outputs: 1; Max V+: 16.5V; Op Pwr Diss: 625mW; Resolution (Bits): 16; Settling Time: 6µs; Single Supply: No; DatasheetVersion: Rev.A; PackageVersion: 060706-A; PackageReference: RW-28; PackageDescription: 28-Lead Standard Small Outline Package [SOIC_W]; Supplier 1: Digi-Key; Supplier Part Number 1: AD669BRZ-ND; Supplier 2: Farnell; Supplier Part Number 2: 2074861; Supplier 3: Mouser; Supplier Part Number 3: 584-AD669BRZ; Packing: Tube; RoHS: Y; Mounting Technology: Surface Mount; Code_JEDEC: MS-013-AE; ComponentLink1Description: Manufacturer URL; ComponentLink1URL: http://www.analog.com/en/index.html; ComponentLink2Description: Datasheet; ComponentLink2URL: http://www.analog.com/static/imported-files/data_sheets/AD669.pdf; ComponentLink3Description: Product URL; ComponentLink3URL: http://www.analog.com/en/digital-to-analog-converters/da-converters/ad669/products/product.html
footprint RW-28_N (SOIC, 28-Leads, Body 17.9x7.5mm, Pitch 1.27mm, IPC Medium Density)
footprint RW-28_L (SOIC, 28-Leads, Body 17.9x7.5mm, Pitch 1.27mm, IPC High Density)
footprint RW-28_M (SOIC, 28-Leads, Body 17.9x7.5mm, Pitch 1.27mm, IPC Low Density)
pins: 1 VEE (power), 2 VCC (power), 3 VLL (power), 4 DGND (power), 5 ~{L1} (in), 6 ~{CS} (in), 7 DB15 (in), 8 DB14 (in), 9 DB13 (in), 10 DB12 (in), 11 DB11 (in), 12 DB10 (in), 13 DB9 (in), 14 DB8 (in), 15 DB7 (in), 16 DB6 (in), 17 DB5 (in), 18 DB4 (in), 19 DB3 (in), 20 DB2 (in), 21 DB1 (in), 22 DB0 (in), 23 LDAC (in), 24 AGND (power), 25 VOUT (out), 26 SPAN/BIP OFFSET (in), 27 REF IN (in), 28 REF OUT (out)

## AD669BRZ-REEL
designator U?
Single 16-Bit Monolithic DACPORT, -40 to +85 degC, RW-28, Pb-Free, Reel; Generic Part Number: AD669; Manufacturer: Analog Devices; PartNumber: AD669BRZ-REEL; # DAC Outputs: 1; Max V+: 16.5V; Op Pwr Diss: 625mW; Resolution (Bits): 16; Settling Time: 6µs; Single Supply: No; DatasheetVersion: Rev.A; PackageVersion: 060706-A; PackageReference: RW-28; PackageDescription: 28-Lead Standard Small Outline Package [SOIC_W]; Supplier 1: Digi-Key; Supplier Part Number 1: AD669BRZ-REELTR-ND; Supplier 2: Digi-Key; Supplier Part Number 2: AD669BRZ-REELCT-ND; Supplier 3: Digi-Key; Supplier Part Number 3: AD669BRZ-REELDKR-ND; Supplier 4: Newark; Supplier Part Number 4: 74R5968; Supplier 5: Mouser; Supplier Part Number 5: 584-AD669BRZ-R; Packing: Reel; RoHS: Y; Mounting Technology: Surface Mount; Code_JEDEC: MS-013-AE; ComponentLink1Description: Manufacturer URL; ComponentLink1URL: http://www.analog.com/en/index.html; ComponentLink2Description: Datasheet; ComponentLink2URL: http://www.analog.com/static/imported-files/data_sheets/AD669.pdf; ComponentLink3Description: Product URL; ComponentLink3URL: http://www.analog.com/en/digital-to-analog-converters/da-converters/ad669/products/product.html
footprint RW-28_N (SOIC, 28-Leads, Body 17.9x7.5mm, Pitch 1.27mm, IPC Medium Density)
footprint RW-28_L (SOIC, 28-Leads, Body 17.9x7.5mm, Pitch 1.27mm, IPC High Density)
footprint RW-28_M (SOIC, 28-Leads, Body 17.9x7.5mm, Pitch 1.27mm, IPC Low Density)
pins: 1 VEE (power), 2 VCC (power), 3 VLL (power), 4 DGND (power), 5 ~{L1} (in), 6 ~{CS} (in), 7 DB15 (in), 8 DB14 (in), 9 DB13 (in), 10 DB12 (in), 11 DB11 (in), 12 DB10 (in), 13 DB9 (in), 14 DB8 (in), 15 DB7 (in), 16 DB6 (in), 17 DB5 (in), 18 DB4 (in), 19 DB3 (in), 20 DB2 (in), 21 DB1 (in), 22 DB0 (in), 23 LDAC (in), 24 AGND (power), 25 VOUT (out), 26 SPAN/BIP OFFSET (in), 27 REF IN (in), 28 REF OUT (out)

## AD669SQ
designator U?
Single 16-Bit Monolithic DACPORT, -55 to +125 degC, Q-28-2, Tube; Generic Part Number: AD669; Manufacturer: Analog Devices; PartNumber: AD669SQ; # DAC Outputs: 1; Max V+: 16.5V; Op Pwr Diss: 625mW; Resolution (Bits): 16; Settling Time: 6µs; Single Supply: No; DatasheetVersion: Rev.A; PackageVersion: 030106-A; PackageReference: Q-28-2; PackageDescription: 28-Lead Ceramic Dual In-Line Package [CERDIP]; Supplier 1: Digi-Key; Supplier Part Number 1: AD669SQ-ND; Supplier 2: Newark; Supplier Part Number 2: 09B5478; Supplier 3: Mouser; Supplier Part Number 3: 584-AD669SQ; Packing: Tube; RoHS: N; Mounting Technology: Through Hole; ComponentLink1Description: Manufacturer URL; ComponentLink1URL: http://www.analog.com/en/index.html; ComponentLink2Description: Datasheet; ComponentLink2URL: http://www.analog.com/static/imported-files/data_sheets/AD669.pdf; ComponentLink3Description: Package Specification; ComponentLink3URL: http://www.analog.com/static/imported-files/packages/4045339666127361303Q_28_2.pdf; ComponentLink4Description: Product URL; ComponentLink4URL: http://www.analog.com/en/digital-to-analog-converters/da-converters/ad669/products/product.html
footprint Q-28-2 (DIP, 28-Leads, Row Spacing 15.24mm, Pitch 2.54mm, Body 37.2x14.1mm)
pins: 1 VEE (power), 2 VCC (power), 3 VLL (power), 4 DGND (power), 5 ~{L1} (in), 6 ~{CS} (in), 7 DB15 (in), 8 DB14 (in), 9 DB13 (in), 10 DB12 (in), 11 DB11 (in), 12 DB10 (in), 13 DB9 (in), 14 DB8 (in), 15 DB7 (in), 16 DB6 (in), 17 DB5 (in), 18 DB4 (in), 19 DB3 (in), 20 DB2 (in), 21 DB1 (in), 22 DB0 (in), 23 LDAC (in), 24 AGND (power), 25 VOUT (out), 26 SPAN/BIP OFFSET (in), 27 REF IN (in), 28 REF OUT (out)

## AD669SQ/883B
designator U?
Single 16-Bit Monolithic DACPORT, -55 to +125 degC, Q-28-2, Tube; Generic Part Number: AD669; Manufacturer: Analog Devices; PartNumber: AD669SQ/883B; # DAC Outputs: 1; Max V+: 16.5V; Op Pwr Diss: 625mW; Resolution (Bits): 16; Settling Time: 6µs; Single Supply: No; DatasheetVersion: Rev.A; PackageVersion: 030106-A; PackageReference: Q-28-2; PackageDescription: 28-Lead Ceramic Dual In-Line Package [CERDIP]; Supplier 1: Mouser; Supplier Part Number 1: 584-AD669SQ883B; Packing: Tube; RoHS: N; Mounting Technology: Through Hole; ComponentLink1Description: Manufacturer URL; ComponentLink1URL: http://www.analog.com/en/index.html; ComponentLink2Description: Datasheet; ComponentLink2URL: http://www.analog.com/static/imported-files/data_sheets/AD669.pdf; ComponentLink3Description: Package Specification; ComponentLink3URL: http://www.analog.com/static/imported-files/packages/4045339666127361303Q_28_2.pdf; ComponentLink4Description: Product URL; ComponentLink4URL: http://www.analog.com/en/digital-to-analog-converters/da-converters/ad669/products/product.html
footprint Q-28-2 (DIP, 28-Leads, Row Spacing 15.24mm, Pitch 2.54mm, Body 37.2x14.1mm)
pins: 1 VEE (power), 2 VCC (power), 3 VLL (power), 4 DGND (power), 5 ~{L1} (in), 6 ~{CS} (in), 7 DB15 (in), 8 DB14 (in), 9 DB13 (in), 10 DB12 (in), 11 DB11 (in), 12 DB10 (in), 13 DB9 (in), 14 DB8 (in), 15 DB7 (in), 16 DB6 (in), 17 DB5 (in), 18 DB4 (in), 19 DB3 (in), 20 DB2 (in), 21 DB1 (in), 22 DB0 (in), 23 LDAC (in), 24 AGND (power), 25 VOUT (out), 26 SPAN/BIP OFFSET (in), 27 REF IN (in), 28 REF OUT (out)

## AD760AQ
designator U?
Single 18-Bit Self-Calibrating DACPORT, -40 to +85 degC, Q-28-2, Tube; Generic Part Number: AD760; Manufacturer: Analog Devices; PartNumber: AD760AQ; # DAC Outputs: 1; Max V+: 15.75V; Op Pwr Diss: 725mW; Resolution (Bits): 18; Settling Time: 6µs; Single Supply: No; DatasheetVersion: Rev.A; PackageVersion: 030106-A; PackageReference: Q-28-2; PackageDescription: 28-Lead Ceramic Dual In-Line Package [CERDIP]; Supplier 1: Digi-Key; Supplier Part Number 1: AD760AQ-ND; Supplier 2: Newark; Supplier Part Number 2: 91F2883; Supplier 3: Mouser; Supplier Part Number 3: 584-AD760AQ; Packing: Tube; RoHS: N; Mounting Technology: Through Hole; ComponentLink1Description: Manufacturer URL; ComponentLink1URL: http://www.analog.com/en/index.html; ComponentLink2Description: Datasheet; ComponentLink2URL: http://www.analog.com/static/imported-files/data_sheets/AD760.pdf; ComponentLink3Description: Package Specification; ComponentLink3URL: http://www.analog.com/static/imported-files/packages/4045339666127361303Q_28_2.pdf; ComponentLink4Description: Product URL; ComponentLink4URL: http://www.analog.com/en/digital-to-analog-converters/da-converters/ad760/products/product.html
footprint Q-28-2 (DIP, 28-Leads, Row Spacing 15.24mm, Pitch 2.54mm, Body 37.2x14.1mm)
pins: 1 CALOK (out), 2 ~{CAL} (in), 3 -VEE (power), 4 +VCC (power), 5 +VLL (power), 6 DGND (power), 7 DB7|15 (in), 8 DB6|14 (in), 9 DB5|13 (in), 10 DB4|12 (in), 11 DB3|11 (in), 12 DB2|10|18/~{16} SERIAL (in), 13 DB1|9| MSB/~{LSB} (in), 14 DB0|8| SIN (in), 15 SOUT (out), 16 ~{CS} (in), 17 ~{LBE}| ~{UNI}/BIP CLR (in), 18 ~{HBE} (in), 19 ~{SER} (in), 20 ~{CLR} (in), 21 LDAC (in), 22 AGND (power), 23 VOUT (out), 24 SPAN/BIP OFF (in), 25 REF IN (in), 26 REF OUT (out), 27 MUXOUT (out), 28 MUXIN (in)

## AD766AN
designator U?
Single 16-Bit DSP DACPORT, -40 to +85 degC, N-16, Tube; Generic Part Number: AD766; Manufacturer: Analog Devices; PartNumber: AD766AN; # DAC Outputs: 1; Max V+: 13.2V; Op Pwr Diss: 150mW; Resolution (Bits): 16; Settling Time: 1.5µs; Single Supply: No; DatasheetVersion: Rev.A; PackageVersion: 070706-A; PackageReference: N-16; PackageDescription: 16-Lead Plastic Dual In-Line Package [PDIP] Narrow Body; Supplier 1: Digi-Key; Supplier Part Number 1: AD766AN-ND; Supplier 2: Newark; Supplier Part Number 2: 92F8946; Supplier 3: Mouser; Supplier Part Number 3: 584-AD766AN; Packing: Tube; RoHS: N; Mounting Technology: Through Hole; Code_JEDEC: MS-001; ComponentLink1Description: Manufacturer URL; ComponentLink1URL: http://www.analog.com/en/index.html; ComponentLink2Description: Datasheet; ComponentLink2URL: http://www.analog.com/static/imported-files/data_sheets/AD766.pdf; ComponentLink3Description: Package Specification; ComponentLink3URL: http://www.analog.com/static/imported-files/packages/44768431550332N_16.pdf; ComponentLink4Description: Product URL; ComponentLink4URL: http://www.analog.com/en/digital-to-analog-converters/da-converters/ad766/products/product.html
footprint N-16 (DIP, 16-Leads, Row Spacing 7.62mm, Pitch 2.54mm, Body 20.1x6.6mm)
pins: 1 -VS (power) "Analog Negative Power Supply", 2 DGND (power) "Digital Ground", 3 VL (power) "Logic Positive Power Supply", 4 NC "No Connection", 5 ~{CLK} (in) "Clock Input", 6 LE (in) "Latch Enable Input", 7 DATA (in) "Serial Data Input", 8 -VL (power) "Logic Negative Power Supply", 9 VOUT (out) "Voltage Output", 10 RF (in) "Feedback Resistor", 11 SJ (in) "Summing Junction", 12 AGND (power) "Analog Ground", 13 IOUT (out) "Current Output", 14 MSB ADJ (in) "MSB Adjustment Terminal", 15 TRIM "MSB Trimming Potentiometer Terminal", 16 VS (power) "Analog Positive Power Supply"

## AD766ANZ
designator U?
Single 16-Bit DSP DACPORT, -40 to +85 degC, N-16, Pb-Free, Tube; Generic Part Number: AD766; Manufacturer: Analog Devices; PartNumber: AD766ANZ; # DAC Outputs: 1; Max V+: 13.2V; Op Pwr Diss: 150mW; Resolution (Bits): 16; Settling Time: 1.5µs; Single Supply: No; DatasheetVersion: Rev.A; PackageVersion: 070706-A; PackageReference: N-16; PackageDescription: 16-Lead Plastic Dual In-Line Package [PDIP] Narrow Body; Supplier 1: Digi-Key; Supplier Part Number 1: AD766ANZ-ND; Supplier 2: Mouser; Supplier Part Number 2: 584-AD766ANZ; Packing: Tube; RoHS: Y; Mounting Technology: Through Hole; Code_JEDEC: MS-001; ComponentLink1Description: Manufacturer URL; ComponentLink1URL: http://www.analog.com/en/index.html; ComponentLink2Description: Datasheet; ComponentLink2URL: http://www.analog.com/static/imported-files/data_sheets/AD766.pdf; ComponentLink3Description: Package Specification; ComponentLink3URL: http://www.analog.com/static/imported-files/packages/44768431550332N_16.pdf; ComponentLink4Description: Product URL; ComponentLink4URL: http://www.analog.com/en/digital-to-analog-converters/da-converters/ad766/products/product.html
footprint N-16 (DIP, 16-Leads, Row Spacing 7.62mm, Pitch 2.54mm, Body 20.1x6.6mm)
pins: 1 -VS (power) "Analog Negative Power Supply", 2 DGND (power) "Digital Ground", 3 VL (power) "Logic Positive Power Supply", 4 NC "No Connection", 5 ~{CLK} (in) "Clock Input", 6 LE (in) "Latch Enable Input", 7 DATA (in) "Serial Data Input", 8 -VL (power) "Logic Negative Power Supply", 9 VOUT (out) "Voltage Output", 10 RF (in) "Feedback Resistor", 11 SJ (in) "Summing Junction", 12 AGND (power) "Analog Ground", 13 IOUT (out) "Current Output", 14 MSB ADJ (in) "MSB Adjustment Terminal", 15 TRIM "MSB Trimming Potentiometer Terminal", 16 VS (power) "Analog Positive Power Supply"

## AD766JN
designator U?
Single 16-Bit DSP DACPORT, 0 to +70 degC, N-16, Tube; Generic Part Number: AD766; Manufacturer: Analog Devices; PartNumber: AD766JN; # DAC Outputs: 1; Max V+: 13.2V; Op Pwr Diss: 150mW; Resolution (Bits): 16; Settling Time: 1.5µs; Single Supply: No; DatasheetVersion: Rev.A; PackageVersion: 070706-A; PackageReference: N-16; PackageDescription: 16-Lead Plastic Dual In-Line Package [PDIP] Narrow Body; Supplier 1: Digi-Key; Supplier Part Number 1: AD766JN-ND; Supplier 2: Mouser; Supplier Part Number 2: 584-AD766JN; Packing: Tube; RoHS: N; Mounting Technology: Through Hole; Code_JEDEC: MS-001; ComponentLink1Description: Manufacturer URL; ComponentLink1URL: http://www.analog.com/en/index.html; ComponentLink2Description: Datasheet; ComponentLink2URL: http://www.analog.com/static/imported-files/data_sheets/AD766.pdf; ComponentLink3Description: Package Specification; ComponentLink3URL: http://www.analog.com/static/imported-files/packages/44768431550332N_16.pdf; ComponentLink4Description: Product URL; ComponentLink4URL: http://www.analog.com/en/digital-to-analog-converters/da-converters/ad766/products/product.html
footprint N-16 (DIP, 16-Leads, Row Spacing 7.62mm, Pitch 2.54mm, Body 20.1x6.6mm)
pins: 1 -VS (power) "Analog Negative Power Supply", 2 DGND (power) "Digital Ground", 3 VL (power) "Logic Positive Power Supply", 4 NC "No Connection", 5 ~{CLK} (in) "Clock Input", 6 LE (in) "Latch Enable Input", 7 DATA (in) "Serial Data Input", 8 -VL (power) "Logic Negative Power Supply", 9 VOUT (out) "Voltage Output", 10 RF (in) "Feedback Resistor", 11 SJ (in) "Summing Junction", 12 AGND (power) "Analog Ground", 13 IOUT (out) "Current Output", 14 MSB ADJ (in) "MSB Adjustment Terminal", 15 TRIM "MSB Trimming Potentiometer Terminal", 16 VS (power) "Analog Positive Power Supply"

## AD766JNZ
designator U?
Single 16-Bit DSP DACPORT, 0 to +70 degC, N-16, Pb-Free, Tube; Generic Part Number: AD766; Manufacturer: Analog Devices; PartNumber: AD766JNZ; # DAC Outputs: 1; Max V+: 13.2V; Op Pwr Diss: 150mW; Resolution (Bits): 16; Settling Time: 1.5µs; Single Supply: No; DatasheetVersion: Rev.A; PackageVersion: 070706-A; PackageReference: N-16; PackageDescription: 16-Lead Plastic Dual In-Line Package [PDIP] Narrow Body; Supplier 1: Digi-Key; Supplier Part Number 1: AD766JNZ-ND; Supplier 2: Farnell; Supplier Part Number 2: 9605223; Supplier 3: Newark; Supplier Part Number 3: 19M0885; Supplier 4: Mouser; Supplier Part Number 4: 584-AD766JNZ; Packing: Tube; RoHS: Y; Mounting Technology: Through Hole; Code_JEDEC: MS-001; ComponentLink1Description: Manufacturer URL; ComponentLink1URL: http://www.analog.com/en/index.html; ComponentLink2Description: Datasheet; ComponentLink2URL: http://www.analog.com/static/imported-files/data_sheets/AD766.pdf; ComponentLink3Description: Package Specification; ComponentLink3URL: http://www.analog.com/static/imported-files/packages/44768431550332N_16.pdf; ComponentLink4Description: Product URL; ComponentLink4URL: http://www.analog.com/en/digital-to-analog-converters/da-converters/ad766/products/product.html
footprint N-16 (DIP, 16-Leads, Row Spacing 7.62mm, Pitch 2.54mm, Body 20.1x6.6mm)
pins: 1 -VS (power) "Analog Negative Power Supply", 2 DGND (power) "Digital Ground", 3 VL (power) "Logic Positive Power Supply", 4 NC "No Connection", 5 ~{CLK} (in) "Clock Input", 6 LE (in) "Latch Enable Input", 7 DATA (in) "Serial Data Input", 8 -VL (power) "Logic Negative Power Supply", 9 VOUT (out) "Voltage Output", 10 RF (in) "Feedback Resistor", 11 SJ (in) "Summing Junction", 12 AGND (power) "Analog Ground", 13 IOUT (out) "Current Output", 14 MSB ADJ (in) "MSB Adjustment Terminal", 15 TRIM "MSB Trimming Potentiometer Terminal", 16 VS (power) "Analog Positive Power Supply"

## AD766SD/883B
designator U?
Single 16-Bit DSP DACPORT, -55 to +125 degC, D-16, Tube; Generic Part Number: AD766; Manufacturer: Analog Devices; PartNumber: AD766SD/883B; # DAC Outputs: 1; Max V+: 13.2V; Op Pwr Diss: 150mW; Resolution (Bits): 16; Settling Time: 1.5µs; Single Supply: No; DatasheetVersion: Rev.A; PackageVersion: Oct-2004; PackageReference: D-16; PackageDescription: 16-Lead Side-Brazed Ceramic Dual In-Line Package [SBDIP]; Supplier 1: Mouser; Supplier Part Number 1: 584-AD766SD883B; Packing: Tube; RoHS: N; Mounting Technology: Through Hole; ComponentLink1Description: Manufacturer URL; ComponentLink1URL: http://www.analog.com/en/index.html; ComponentLink2Description: Datasheet; ComponentLink2URL: http://www.analog.com/static/imported-files/data_sheets/AD766.pdf; ComponentLink3Description: Package Specification; ComponentLink3URL: http://www.analog.com/static/imported-files/packages/411773807540737148809448D_16.pdf; ComponentLink4Description: Product URL; ComponentLink4URL: http://www.analog.com/en/digital-to-analog-converters/da-converters/ad766/products/product.html
footprint D-16 (DIP, 16-Leads, Row Spacing 7.62mm, Pitch 2.54mm, Body 21.3x6.7mm)
pins: 1 -VS (power) "Analog Negative Power Supply", 2 DGND (power) "Digital Ground", 3 VL (power) "Logic Positive Power Supply", 4 NC "No Connection", 5 ~{CLK} (in) "Clock Input", 6 LE (in) "Latch Enable Input", 7 DATA (in) "Serial Data Input", 8 -VL (power) "Logic Negative Power Supply", 9 VOUT (out) "Voltage Output", 10 RF (in) "Feedback Resistor", 11 SJ (in) "Summing Junction", 12 AGND (power) "Analog Ground", 13 IOUT (out) "Current Output", 14 MSB ADJ (in) "MSB Adjustment Terminal", 15 TRIM "MSB Trimming Potentiometer Terminal", 16 VS (power) "Analog Positive Power Supply"

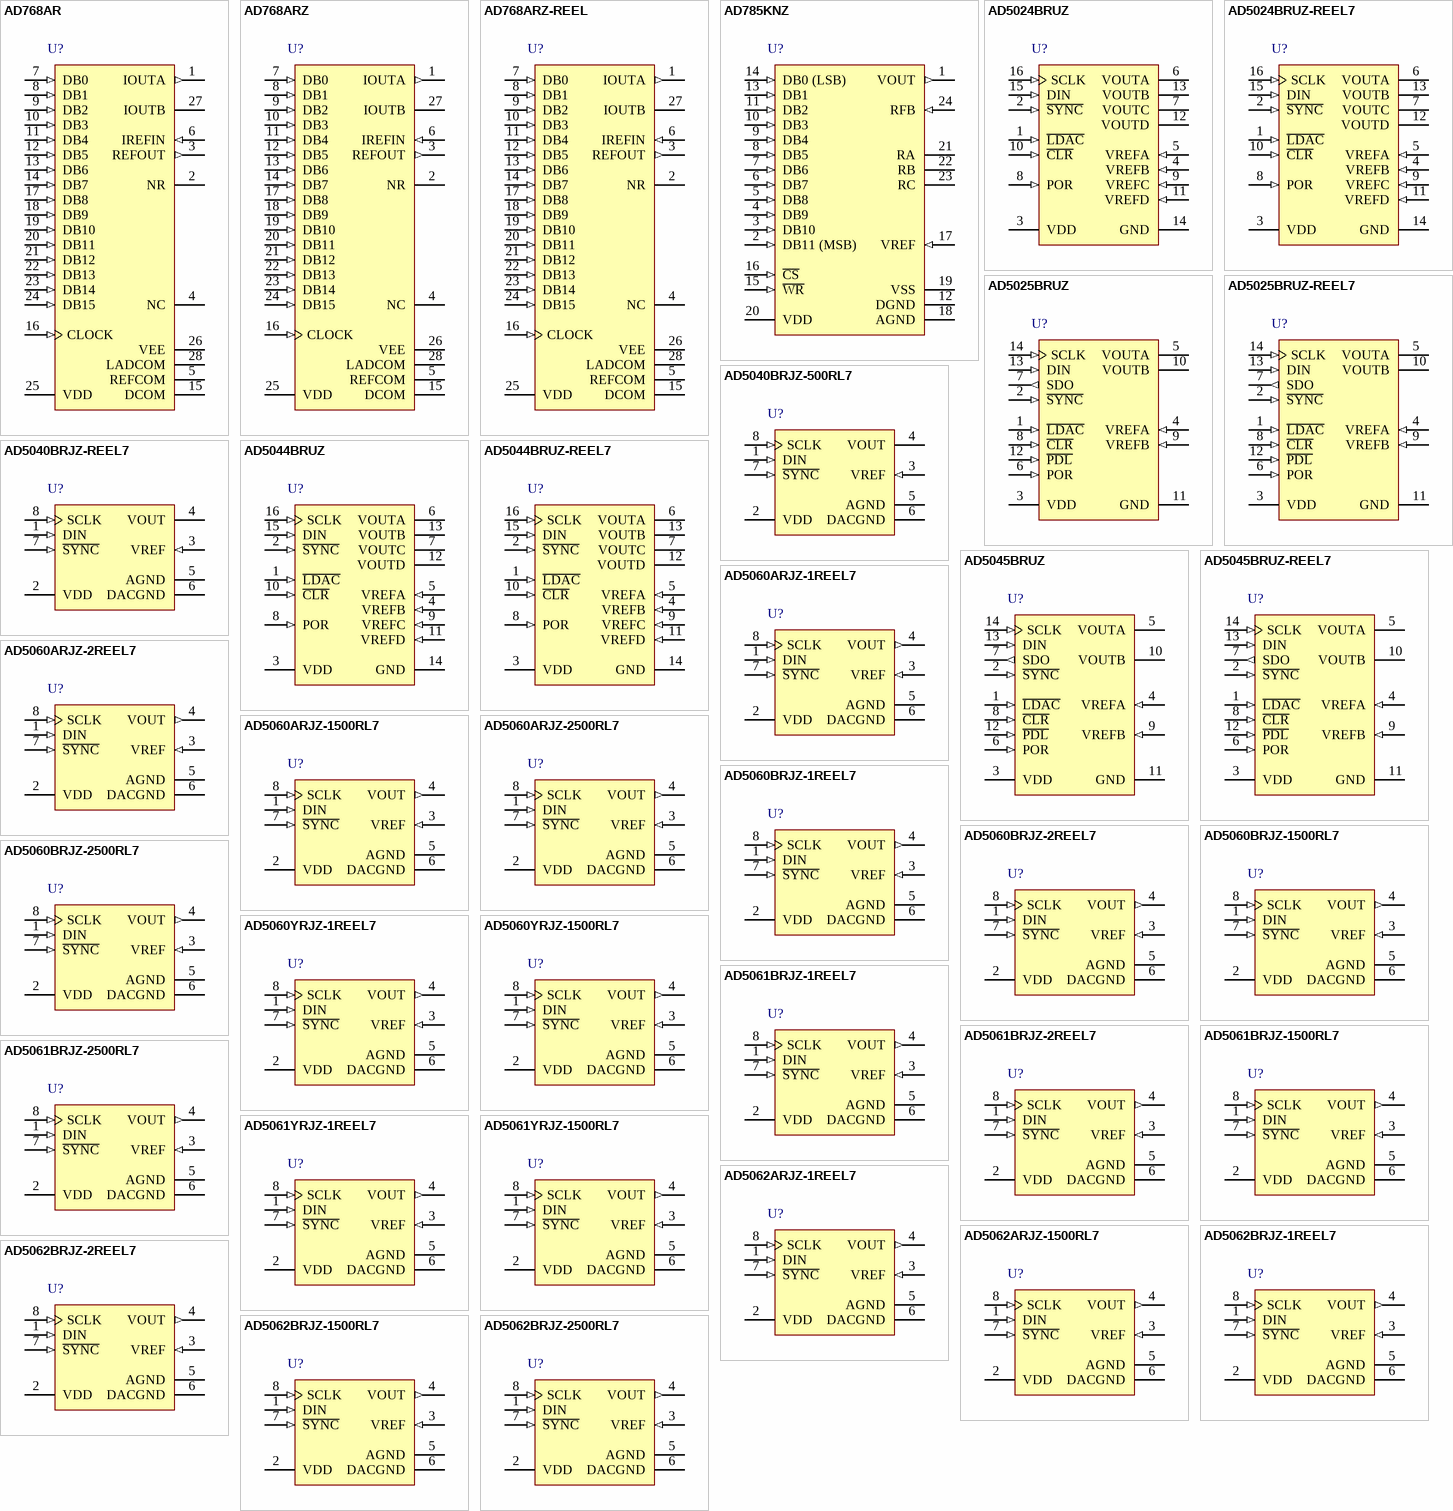
[diagram p8: symbols AD768AR to AD5062BRJZ-2500RL7]